# EAGLE library part ACS711 (library maxorig)
ACS711 - Analog AC/DC current sensor Hall effect linear current sensor with overcurrent fault output. Outputs analog voltage proportional to current range(-Imax to +Imax maps to 0v to VCC). Fault pin latches low when current passes 100% of its rated value, and remains latched until power is reset for at least 100 us. Technical specifications: VCC: 3-5.5V Isolation voltage: 100V 15.5A or 31A sensing range on EX package 12.5A or 25A sensing range on LC package Range centered at Vcc/2
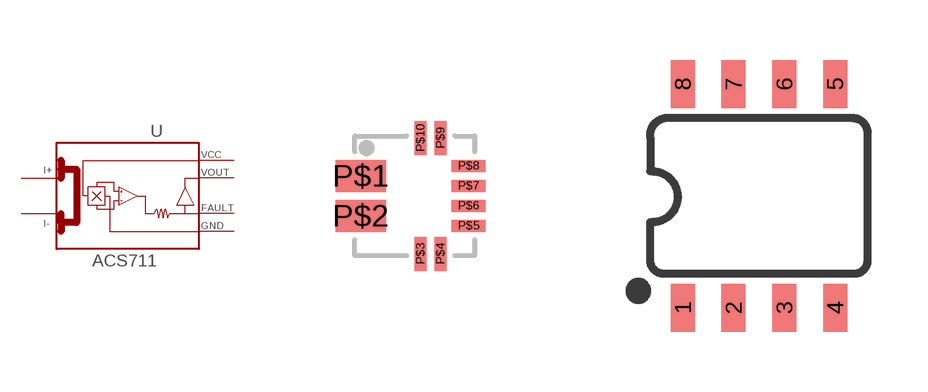
[diagram p24: symbol with the pads of QFN-12EX_3X3; footprints QFN-12EX_3X3, SOIC-08]

Designator prefix -

## ACS711EX  [QFN-12EX_3X3]
P$1  I+_1
P$2  I-_1
P$3  GND  pwr
P$4  FAULT
P$9  VOUT  out
P$10  VCC  pwr

## ACS711LC  [SOIC-08]
1  I+_1
2  I+_1
3  I-_1
4  I-_1
5  GND  pwr
6  FAULT
7  VOUT  out
8  VCC  pwr

## Footprint QFN-12EX_3X3 (pad centres in mm)
smd 1.27 x 0.8: P$1 -1.35,0.5; P$2 -1.35,-0.5
smd 0.3 x 0.85: P$3 0.15,-1.45; P$4 0.65,-1.45; P$9 0.65,1.45; P$10 0.15,1.45
smd 0.85 x 0.3: P$5 1.35,-0.75; P$6 1.35,-0.25; P$7 1.35,0.25; P$8 1.35,0.75

## Footprint SOIC-08 (pad centres in mm)
SOIC, 0.15 inch width
smd 0.6 x 1.2: 1 -1.905,-2.8; 2 -0.635,-2.8; 3 0.635,-2.8; 4 1.905,-2.8; 5 1.905,2.8; 6 0.635,2.8; 7 -0.635,2.8; 8 -1.905,2.8